# Altium footprint library DIP762W45P254L1980H508Q16.PcbLib: 1 footprints
Each footprint in its own frame and in the unit in brackets; x right, y up, seen from the top. Pads: shape width x height; smd on the part's side, far side on the other; paste and mask are expansions set on the pad; w line width, h text height; cw(c..) or ccw(c..) is an arc to the next point about the centre after c.
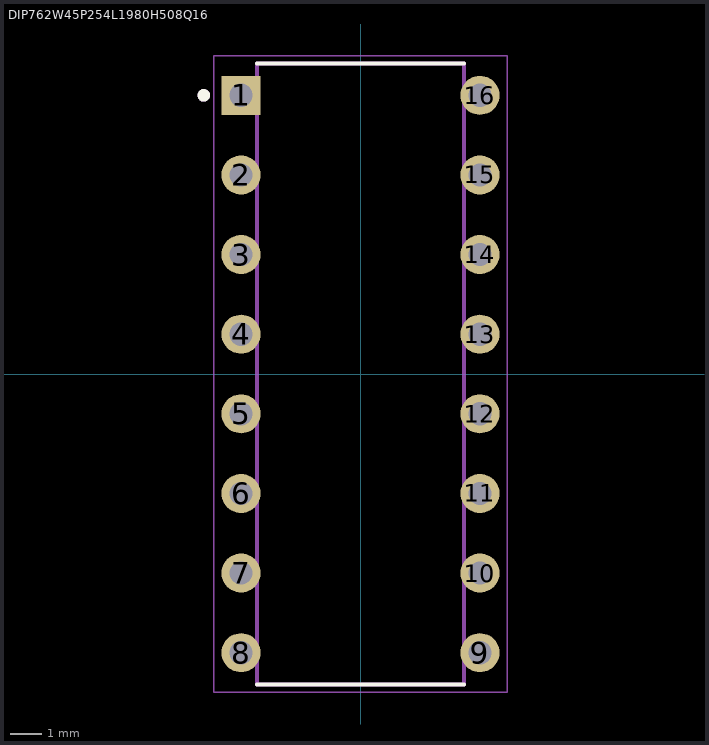
[diagram p0: the footprint, top view; thin cyan lines are the x and y axes]

## DIP762W45P254L1980H508Q16 [mm]
pads (16):
  rect 1.248x1.248 / inner round 1.248 / far side rect 1.248x1.248 hole 0.74: 1(-3.81,8.89)
  round 1.248 hole 0.74: 2(-3.81,6.35) 3(-3.81,3.81) 4(-3.81,1.27) 5(-3.81,-1.27) 6(-3.81,-3.81) 7(-3.81,-6.35) 8(-3.81,-8.89) 9(3.81,-8.89) 10(3.81,-6.35) 11(3.81,-3.81) 12(3.81,-1.27) 13(3.81,1.27) 14(3.81,3.81) 15(3.81,6.35) 16(3.81,8.89)
Top Overlay:
  circle w0.2: c-5,8.89 r0.1
  lines w0.127: -3.3,-9.9 3.3,-9.9 ; -3.3,9.9 3.3,9.9
Assembly Top:
  circle w0.2: c-5,8.89 r0.1
  lines w0.127: -3.3,-9.9 -3.3,9.9 3.3,9.9 3.3,-9.9 -3.3,-9.9
Courtyard Top:
  lines w0.05: -4.685,-10.15 -4.685,10.15 4.685,10.15 4.685,-10.15 -4.685,-10.15
3D body "step_temp.STEP": height 5.08, standoff -3.94, extent -3.81,-9.779 3.81,10.033